# Altium footprint library Common.PcbLib: 18 footprints (part 2 of 2)
Each footprint in its own frame and in the unit in brackets; x right, y up, seen from the top. Pads: shape width x height; smd on the part's side, far side on the other; paste and mask are expansions set on the pad; w line width, h text height; cw(c..) or ccw(c..) is an arc to the next point about the centre after c.
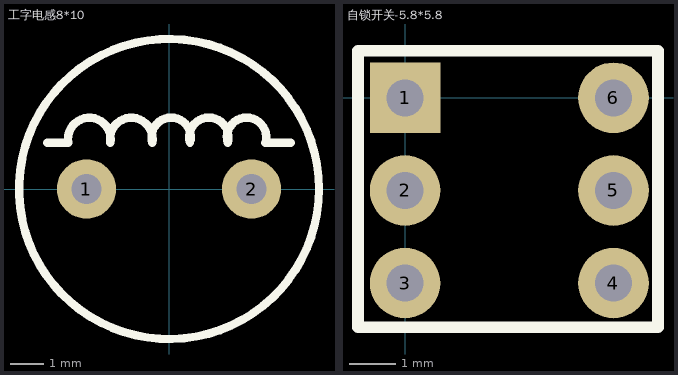
[diagram p1: the footprints below, top view; thin cyan lines are the x and y axes]

## 工字电感8*10 [mm]
height 13
pads (2):
  round 1.8 hole 0.9: 1(-2.5,0) 2(2.5,0)
Top Overlay:
  circle w0.254: c0,0 r4.544
  lines w0.254: -3.683,1.397 -3.048,1.397 cw(c-2.413,1.513) -1.778,1.397 cw(c-1.143,1.513) -0.508,1.397 cw(c0.064,1.566) 0.635,1.397 cw(c1.206,1.566) 1.778,1.397 cw(c2.349,1.566) 2.921,1.397 3.683,1.397

## 自锁开关-5.8*5.8 [mm]
pads (6):
  rect 1.524x1.524 hole 0.8: 1(0,0)
  round 1.524 hole 0.8: 2(0,-2) 3(0,-4) 4(4.5,-4) 5(4.5,-2) 6(4.5,0)
Top Overlay:
  lines w0.254: -1.016,-4.953 -1.016,1.016 5.461,1.016 5.461,-4.953 -1.016,-4.953